# Altium schematic symbol library DRV8833C_HTSSOP.SchLib: 2 symbols
Pins are listed as number, name and electrical type; pins without a type are passive.

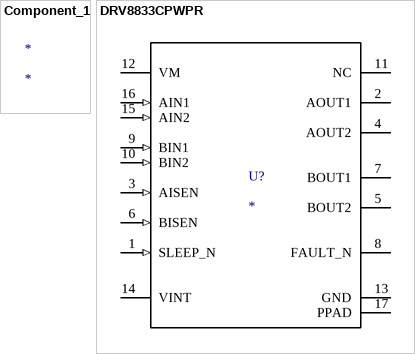
[diagram p0: symbols Component_1 to DRV8833CPWPR]

## Component_1
designator *

## DRV8833CPWPR
designator U?
Imported; PartNumber: DRV8833CPWPR; Alternate PartNumber: DRV8833CPWP; Manufacturer: Texas Instruments; CompType: IC; PIN_COUNT: 17; Application_BuildNumber: *; PackageReference: PWP0016K; MountType: SMT; RoHS: Y; RefDes: RefDes; Type: DEV; Value: Value
footprint htssop16
pins: 1 SLEEP_N (in), 2 AOUT1 (hiz), 3 AISEN (in), 4 AOUT2 (hiz), 5 BOUT2 (hiz), 6 BISEN (in), 7 BOUT1 (hiz), 8 FAULT_N (oc), 9 BIN1 (in), 10 BIN2 (in), 11 NC, 12 VM (power), 13 GND (power), 14 VINT, 15 AIN2 (in), 16 AIN1 (in), 17 PPAD (power)